# Altium schematic symbol library BrauV2_IC.SchLib: 14 symbols
Pins are listed as number, name and electrical type; pins without a type are passive.

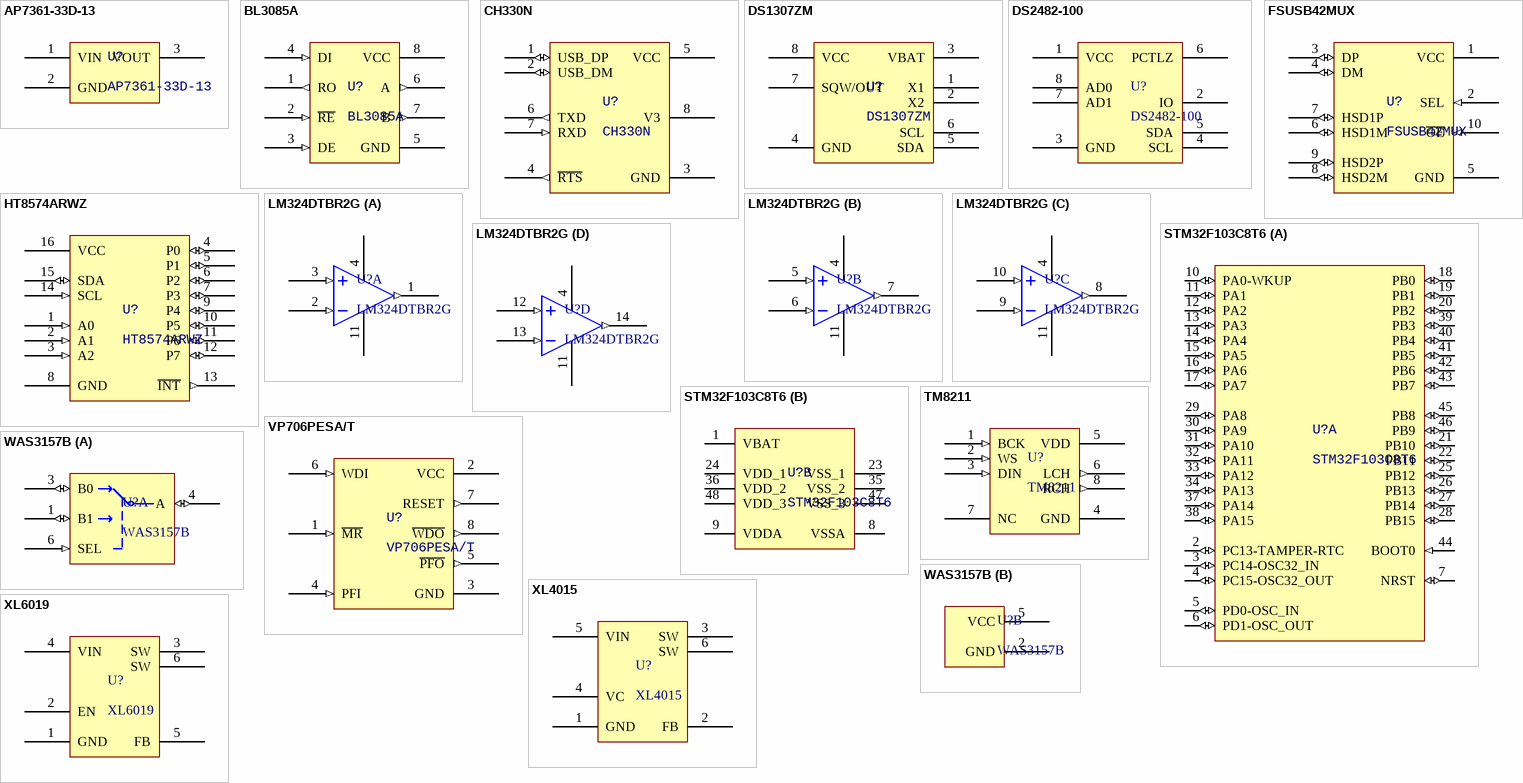
[diagram p0: symbols AP7361-33D-13 to XL6019]

## AP7361-33D-13
designator U?
Fixed 6V 3.3V 700mV @ 1A TO-252 Dropout Regulators(LDO) RoHS
footprint TO-252
pins: 1 VIN, 2 GND, 3 VOUT

## BL3085A
designator U?
SOIC-8_150mil RS-485/RS-422 ICs ROHS (MAX485 clone)
footprint SOIC-8-3.9mm
pins: 1 RO (out), 2 ~{RE} (in), 3 DE (in), 4 DI (in), 5 GND (power), 6 A (out), 7 B (out), 8 VCC (power)

## CH330N
designator U?
Transceiver USB 2.0 2Mbps SOP-8_150mil USB ICs RoHS
footprint SOIC-8-3.9mm
pins: 1 USB_DP (io), 2 USB_DM (io), 3 GND (power), 4 ~{RTS} (out), 5 VCC (power), 6 TXD (out), 7 RXD (in), 8 V3 (power)

## DS1307ZM
designator U?
HGSEMI SOP-8 Pre-ordered Chips RoHS
footprint SOIC-8-3.9mm
pins: 1 X1, 2 X2, 3 VBAT, 4 GND, 5 SDA, 6 SCL, 7 SQW/OUT, 8 VCC

## DS2482-100
designator U?
Single-Channel 1-Wire Master
footprint SOIC-8-3.9mm
pins: 1 VCC, 2 IO, 3 GND, 4 SCL, 5 SDA, 6 PCTLZ, 7 AD1, 8 AD0

## FSUSB42MUX
designator U?
MSOP-10 USB ICs RoHS
footprint MSOP-10 (TSSOP, 10-Leads, Body 3.00x3.00mm, Pitch 0.50mm, IPC Medium Density)
pins: 1 VCC (power), 2 SEL (in), 3 DP (io), 4 DM (io), 5 GND (power), 6 HSD1M (io), 7 HSD1P (io), 8 HSD2M (io), 9 HSD2P (io), 10 ~{OE} (in)

## HT8574ARWZ
designator U?
SOP16 Interface - I/O Expanders ROHS (PCF8754 clone)
footprint TSSOP-16
pins: 1 A0 (in), 2 A1 (in), 3 A2 (in), 4 P0 (io), 5 P1 (io), 6 P2 (io), 7 P3 (io), 8 GND (power), 9 P4 (io), 10 P5 (io), 11 P6 (io), 12 P7 (io), 13 ~{INT} (out), 14 SCL (in), 15 SDA (io), 16 VCC (power)

## LM324DTBR2G
designator U?
General Purpose 4 3V ~ 32V, ±1.5V ~ 16V 1MHz 0.6 V/us TSSOP-14 Operational Amplifiers RoHS
footprint TSSOP-14
part A pins: 1 VOUT (out), 2 VIN- (in), 3 VIN+ (in), 4 VDD (power), 11 VSS (power)
part B pins: 4 VDD (power), 5 VIN+ (in), 6 VIN- (in), 7 VOUT (out), 11 VSS (power)
part C pins: 4 VDD (power), 8 VOUT (out), 9 VIN- (in), 10 VIN+ (in), 11 VSS (power)
part D pins: 4 VDD (power), 11 VSS (power), 12 VIN+ (in), 13 VIN- (in), 14 VOUT (out)

## STM32F103C8T6
designator U?
Mainstream Performance line, Arm Cortex-M3 MCU with 64 Kbytes of Flash memory, 72 MHz CPU, motor control, USB and CAN
footprint LQFP32_7x7
part A pins: 2 PC13-TAMPER-RTC (io) "PC13-TAMPER-RTC/PC13/TAMPER-RTC", 3 PC14-OSC32_IN (io) "PC14-OSC32_IN/PC14/OSC32_IN", 4 PC15-OSC32_OUT (io) "PC15-OSC32_OUT/PC15/OSC32_OUT", 5 PD0-OSC_IN (io) "PD0/OSC_IN", 6 PD1-OSC_OUT (io) "PD1/OSC_OUT", 7 NRST (io), 10 PA0-WKUP (io) "PA0-WKUP/PA0/WKUP/USART2_CTS/ADC12_IN0/TIM2_CH1_ETR", 11 PA1 (io) "PA1/USART2_RTS/ADC12_IN1/TIM2_CH2", 12 PA2 (io) "PA2/USART2_TX/ADC12_IN2/TIM2_CH3", 13 PA3 (io) "PA3/USART2_RX/ADC12_IN3/TIM2_CH4", 14 PA4 (io) "PA4/SPI1_NSS/USART2_CK/ADC12_IN4", 15 PA5 (io) "PA5/SPI1_SCK/ADC12_IN5", 16 PA6 (io) "PA6/SPI1_MISO/ADC12_IN6/TIM3_CH1/TIM1_BKIN", 17 PA7 (io) "PA7/SPI1_MOSI/ADC12_IN7/TIM3_CH2/TIM1_CH1N", 18 PB0 (io) "PB0/ADC12_IN8/TIM3_CH3/TIM1_CH2N", 19 PB1 (io) "PB1/ADC12_IN9/TIM3_CH4/TIM1_CH3N", 20 PB2 (io) "PB2/BOOT1", 21 PB10 (io) "PB10/I2C2_SCL/USART3_TX/TIM2_CH3", 22 PB11 (io) "PB11/I2C2_SDA/USART3_RX/TIM2_CH4", 25 PB12 (io) "PB12/SPI2_NSS/I2C2_SMBAl/USART3_CK/TIM1_BKIN", 26 PB13 (io) "PB13/SPI2_SCK/USART3_CTS/TIM1_CH1N", 27 PB14 (io) "PB14/SPI2_MISO/USART3_RTS/TIM1_CH2N", 28 PB15 (io) "PB15/SPI2_MOSI/TIM1_CH3N", 29 PA8 (io) "PA8/USART1_CK/TIM1_CH1/MCO", 30 PA9 (io) "PA9/USART1_TX/TIM1_CH2", 31 PA10 (io) "PA10/USART1_RX/TIM1_CH3", 32 PA11 (io) "PA11/USART1_CTS/CANRX/USBDM/TIM1_CH4", 33 PA12 (io) "PA12/USART1_RTS/CANTX/USBDP/TIM1_ETR", 34 PA13 (io) "PA13/JTMS/SWDIO", 37 PA14 (io) "PA14/JTCK/SWCLK", 38 PA15 (io) "PA15/JTDI/TIM2_CH1_ETR/SPI1_NSS", 39 PB3 (io) "PB3/JTDO/TIM2_CH2/TRACESWO/SPI1_SCK", 40 PB4 (io) "PB4/NJTRST/TIM3_CH1/SPI1_MISO", 41 PB5 (io) "PB5/I2C1_SMBAI/TIM3_CH2/SPI1_MOSI", 42 PB6 (io) "PB6/I2C1_SCL/TIM4_CH1/USART1_TX", 43 PB7 (io) "PB7/I2C1_SDA/TIM4_CH2/USART1_RX", 44 BOOT0 (in), 45 PB8 (io) "PB8/TIM4_CH3/I2C1_SCL/CANRX", 46 PB9 (io) "PB9/TIM4_CH4/I2C1_SDA/CANTX"
part B pins: 1 VBAT (power), 8 VSSA (power), 9 VDDA (power), 23 VSS_1 (power), 24 VDD_1 (power), 35 VSS_2 (power), 36 VDD_2 (power), 47 VSS_3 (power), 48 VDD_3 (power)

## TM8211
designator U?
Digital To Analog Converters (DACs) 16bit I2S
footprint SOIC-8-3.9mm
pins: 1 BCK (in), 2 WS (in), 3 DIN (in), 4 GND (power), 5 VDD (power), 6 LCH (out), 7 NC, 8 RCH (out)

## VP706PESA/T
designator U?
SIOC-8 Monitors & Reset Circuits ROHS, 2.63V, -40°C to 85°C (copy of MAX706P)
footprint SOIC-8-3.9mm
pins: 1 ~{MR} (in), 2 VCC (power), 3 GND (power), 4 PFI (in), 5 ~{PFO} (out), 6 WDI (in), 7 RESET (out), 8 ~{WDO} (out)

## WAS3157B
designator U?
5.5Ω, 400MHz Bandwidth, SPDT Analog Switch SOT23-6
footprint SOT23-6
part A pins: 1 B1 (io), 3 B0 (io), 4 A (io), 6 SEL (in)
part B pins: 2 GND (power), 5 VCC (power)

## XL4015
designator U?
XLSEMI 5A 180KHz 36V Buck DC to DC Converter
footprint TO-263-5 (5 lead TO-263)
pins: 1 GND, 2 FB, 3 SW, 4 VC, 5 VIN, 6 SW

## XL6019
designator U?
XLSEMI 180KHz 60V 5A Switching Current Boost / Buck-Boost / Inverting DC/DC Converter
footprint TO-263-5 (5 lead TO-263)
pins: 1 GND, 2 EN, 3 SW, 4 VIN, 5 FB, 6 SW